# EAGLE library part 623350235321 (library Board-to-Board (rev18a))
WR-PHD 1.27mm Dual SMT Socket Header H=2.20mm,Bottom Entry, 50 Pins=>Code : Con_BTB_SHD_1.27_2_623350235321 <http://katalog.we-online.de/media/thumbs2/eican/thb_Con_BTB_SHD_1.27_2_6233xx235321_pf2.jpg> Details see: http://katalog.we-online.de/en/em/PHD_1_27_SMT_DUAL_SOCKET_HEADER_BOTTOM_ENTRY_REEL_6233XX235321 Created 2014-06-04, Karrer Zheng 2014 (C) Würth Elektronik
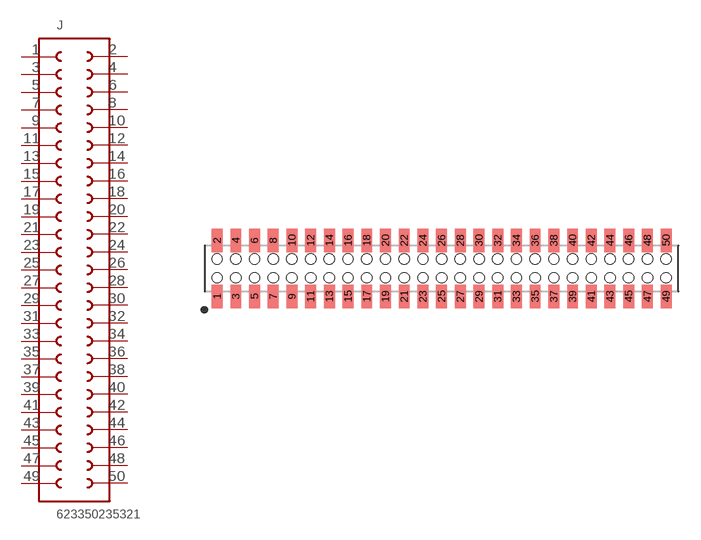
[diagram p302: symbol with the pads of 623350235321; footprint 623350235321]

Designator prefix J

## 623350235321  [623350235321]
1  1  pas
2  50  pas
3  2  pas
4  49  pas
5  3  pas
6  48  pas
7  4  pas
8  47  pas
9  5  pas
10  46  pas
11  6  pas
12  45  pas
13  7  pas
14  44  pas
15  8  pas
16  43  pas
17  9  pas
18  42  pas
19  10  pas
20  41  pas
21  11  pas
22  40  pas
23  12  pas
24  39  pas
25  13  pas
26  38  pas
27  14  pas
28  37  pas
29  15  pas
30  36  pas
31  16  pas
32  35  pas
33  17  pas
34  34  pas
35  18  pas
36  33  pas
37  19  pas
38  32  pas
39  20  pas
40  31  pas
41  21  pas
42  30  pas
43  22  pas
44  29  pas
45  23  pas
46  28  pas
47  24  pas
48  27  pas
49  25  pas
50  26  pas

## Footprint 623350235321 (pad centres in mm)
WR-PHD 1.27mm Dual SMT Socket Header H=2.20mm, Bottom Entry, 50 Pins
smd 0.74 x 1.6: 1 -15.24,-1.9; 2 -15.24,1.9; 3 -13.97,-1.9; 4 -13.97,1.9; 5 -12.7,-1.9; 6 -12.7,1.9; 7 -11.43,-1.9; 8 -11.43,1.9; 9 -10.16,-1.9; 10 -10.16,1.9; 11 -8.89,-1.9; 12 -8.89,1.9; 13 -7.62,-1.9; 14 -7.62,1.9; 15 -6.35,-1.9; 16 -6.35,1.9; 17 -5.08,-1.9; 18 -5.08,1.9; 19 -3.81,-1.9; 20 -3.81,1.9; 21 -2.54,-1.9; 22 -2.54,1.9; 23 -1.27,-1.9; 24 -1.27,1.9; 25 0,-1.9; 26 0,1.9; 27 1.27,-1.9; 28 1.27,1.9; 29 2.54,-1.9; 30 2.54,1.9; 31 3.81,-1.9; 32 3.81,1.9; 33 5.08,-1.9; 34 5.08,1.9; 35 6.35,-1.9; 36 6.35,1.9; 37 7.62,-1.9; 38 7.62,1.9; 39 8.89,-1.9; 40 8.89,1.9; 41 10.16,-1.9; 42 10.16,1.9; 43 11.43,-1.9; 44 11.43,1.9; 45 12.7,-1.9; 46 12.7,1.9; 47 13.97,-1.9; 48 13.97,1.9; 49 15.24,-1.9; 50 15.24,1.9
hole 0.7 at -15.24,0.635
hole 0.7 at -13.97,0.635
hole 0.7 at -12.7,0.635
hole 0.7 at -11.43,0.635
hole 0.7 at -10.16,0.635
hole 0.7 at -15.24,-0.635
hole 0.7 at -13.97,-0.635
hole 0.7 at -12.7,-0.635
hole 0.7 at -11.43,-0.635
hole 0.7 at -10.16,-0.635
hole 0.7 at -8.89,0.635
hole 0.7 at -7.62,0.635
hole 0.7 at -6.35,0.635
hole 0.7 at -5.08,0.635
hole 0.7 at -3.81,0.635
hole 0.7 at -8.89,-0.635
hole 0.7 at -7.62,-0.635
hole 0.7 at -6.35,-0.635
hole 0.7 at -5.08,-0.635
hole 0.7 at -3.81,-0.635
hole 0.7 at -2.54,0.635
hole 0.7 at -2.54,-0.635
hole 0.7 at -1.27,0.635
hole 0.7 at -1.27,-0.635
hole 0.7 at 0,0.635
hole 0.7 at 0,-0.635
hole 0.7 at 1.27,0.635
hole 0.7 at 1.27,-0.635
hole 0.7 at 2.54,0.635
hole 0.7 at 2.54,-0.635
hole 0.7 at 3.81,0.635
hole 0.7 at 3.81,-0.635
hole 0.7 at 5.08,0.635
hole 0.7 at 5.08,-0.635
hole 0.7 at 6.35,0.635
hole 0.7 at 6.35,-0.635
hole 0.7 at 7.62,0.635
hole 0.7 at 7.62,-0.635
hole 0.7 at 8.89,0.635
hole 0.7 at 8.89,-0.635
hole 0.7 at 10.16,0.635
hole 0.7 at 10.16,-0.635
hole 0.7 at 11.43,0.635
hole 0.7 at 11.43,-0.635
hole 0.7 at 12.7,0.635
hole 0.7 at 12.7,-0.635
hole 0.7 at 13.97,0.635
hole 0.7 at 13.97,-0.635
hole 0.7 at 15.24,0.635
hole 0.7 at 15.24,-0.635